# Altium footprint library Switch & Relays FAE.PcbLib: 34 footprints (part 2 of 3)
Each footprint in its own frame and in the unit in brackets; x right, y up, seen from the top. Pads: shape width x height; smd on the part's side, far side on the other; paste and mask are expansions set on the pad; w line width, h text height; cw(c..) or ccw(c..) is an arc to the next point about the centre after c.
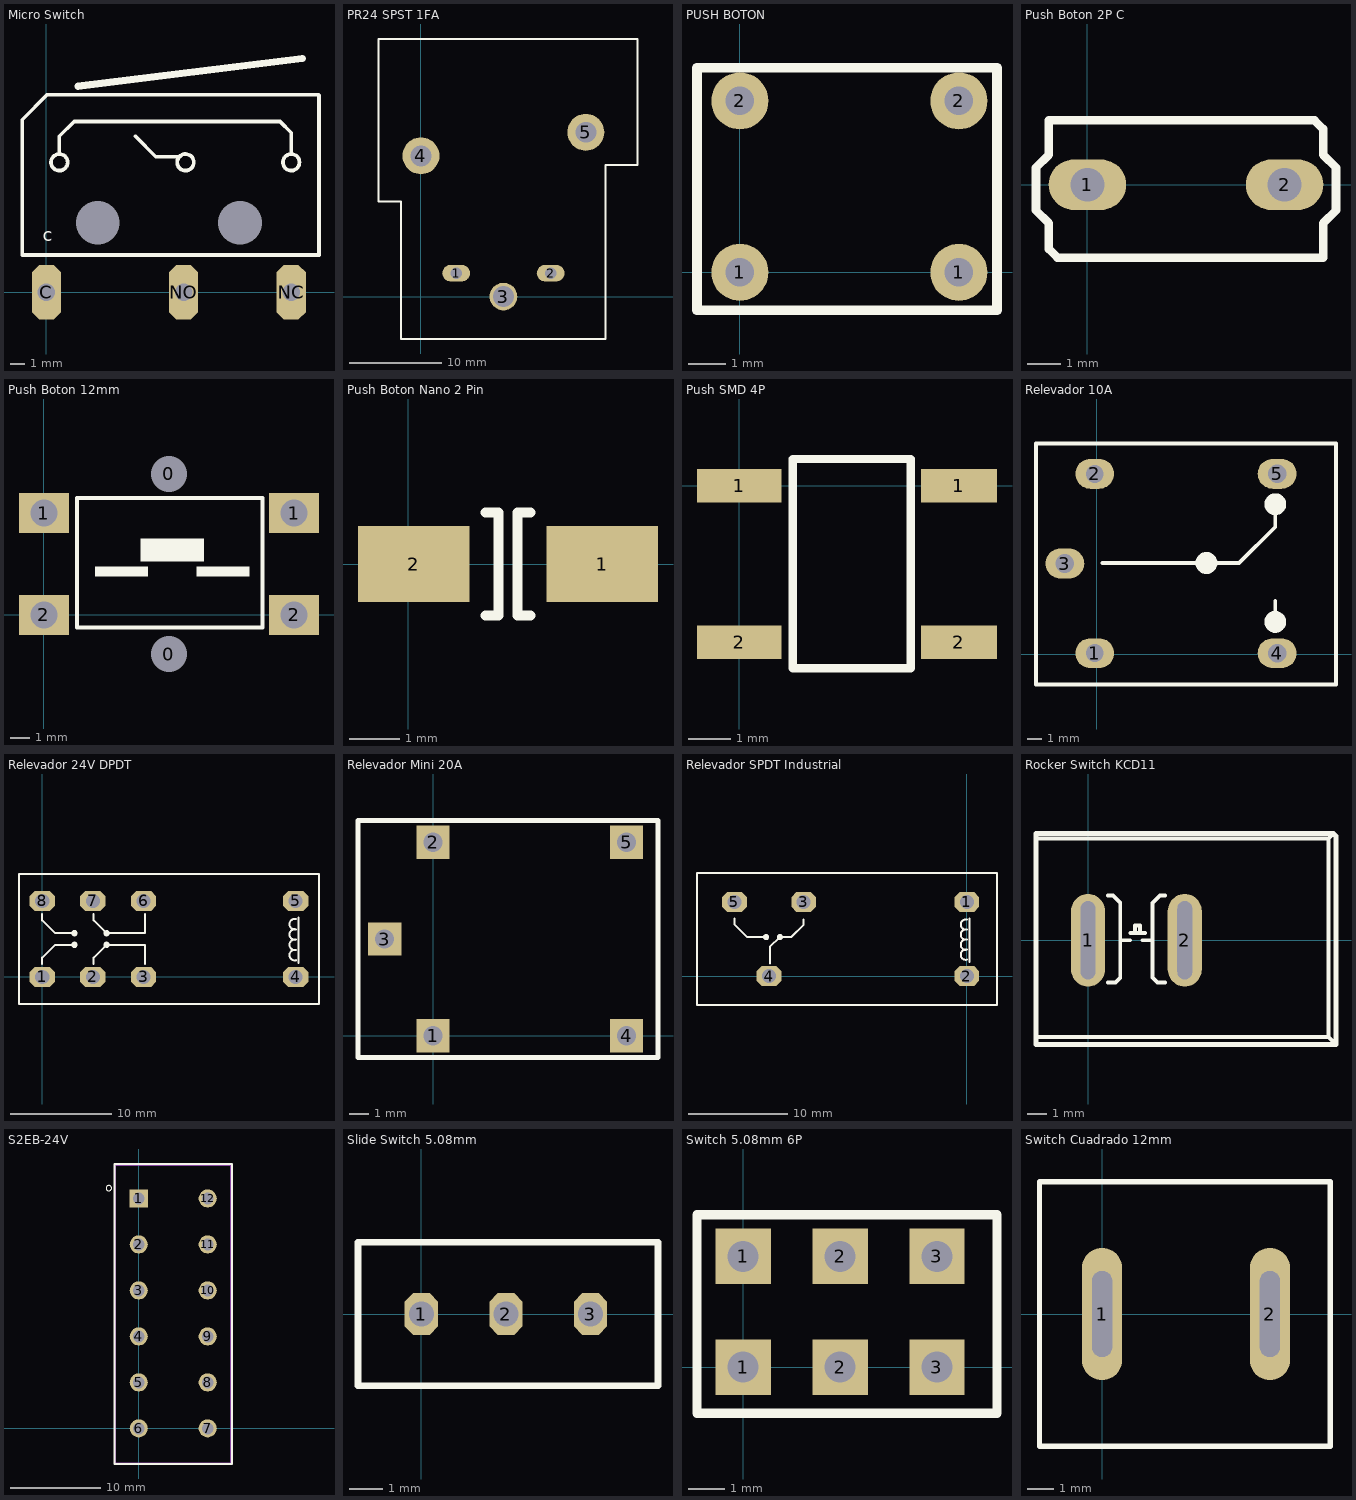
[diagram p1: the footprints below, top view; thin cyan lines are the x and y axes]

## Micro Switch [mm] "Limit Switch Micro AE"
pads (5):
  oct 2x3.75 hole 1.2: C(0,0) NC(16.763,0) NO(9.397,0)
  oct 2x2 hole 3: ""(3.512,4.746) ""(13.262,4.746)
Top Overlay:
  circle w0.254: c16.764,8.89 r0.568
  circle w0.254: c9.525,8.89 r0.568
  circle w0.254: c0.889,8.89 r0.568
  lines w0.254: 0.889,9.525 0.889,10.668 1.905,11.684 16.002,11.684 16.764,10.922 16.764,9.525 ; 6.096,10.668 7.493,9.271 9.144,9.271 ; -1.651,2.54 -1.651,11.811 0.064,13.525 18.605,13.525 18.669,13.462 18.669,2.54 -1.651,2.54
  lines w0.5: 2.159,14.097 17.526,16
  text "c" at -0.254,3.175 h1.52
3D body "kw11-3z.step": height 6.42, standoff -0.02, extent -1.491,-1.11 18.509,18.161

## PR24 SPST 1FA [mm] "Power Relay PR24 1 From A"
height 10
pads (5):
  oval 3x1.8 hole 1.25: 1(3.8,2.54) 2(14,2.54)
  round 3 hole 2.25: 3(8.9,0)
  round 4 hole 2.25: 4(0,15.2) 5(17.8,17.74)
Top Overlay:
  lines w0.2: -4.572,10.287 -4.572,27.813 23.368,27.813 23.368,14.224 19.939,14.224 19.939,-4.572 -2.161,-4.572 -2.156,10.287 -4.572,10.287
3D body: height 3, standoff -2, extent 3.304,2.041 4.3,3.039
3D body: height 3, standoff -2, extent 13.504,2.041 14.5,3.039
3D body: height 3, standoff -2, extent 7.908,-0.998 9.9,0.998
3D body: height 3, standoff -2, extent 16.808,16.742 18.8,18.738
3D body: height 3, standoff -2, extent -0.992,14.202 1,16.198
3D body: height 22, standoff 1.5, extent -4.318,-3.937 23.114,27.559

## PUSH BOTON [mil] "Push Boton TH 6x6mm"
pads (4):
  round 60 hole 30: 1(0,0) 1(230,0) 2(0,180) 2(230,180)
Top Overlay:
  lines w10: -45,-40 270,-40 270,215 -45,215 -45,-40
3D body "PUSH 4P TH.STEP": height 200.79, standoff -133.52, extent -41.86,-31.22 271.86,205

## Push Boton 2P C [mm] "Push Boton TH 6x4 2 pines cortos"
pads (2):
  oval 2.3x1.5 hole 1: 1(0,0) 2(5.842,0)
Top Overlay:
  lines w0.254: -1.524,-0.762 -1.524,0.508 -1.143,0.889 -1.143,1.905 6.731,1.905 6.985,1.651 6.985,0.889 7.366,0.508 7.366,-0.762 6.985,-1.143 6.985,-2.159 -0.889,-2.159 -1.143,-1.905 -1.143,-1.143 -1.524,-0.762
3D body "PB 2P TH Cortos-DTS-32.STEP": height 5.3, standoff -3.2, extent -0.957,-1.75 6.799,1.75

## Push Boton 12mm [mm] "Push Boton 12x12mm"
pads (6):
  round 1.524 hole 1.8: 0(6.25,-1.96) 0(6.25,7.04)
  rect 2.5x2 hole 1.35: 1(0,5.08) 1(12.5,5.08) 2(0,0) 2(12.5,0)
Top Overlay:
  rectangle: 4.826,2.667 8.001,3.81
  rectangle: 2.54,1.905 5.207,2.413
  rectangle: 7.62,1.905 10.287,2.413
  lines w0.2: 1.651,-0.635 10.922,-0.635 10.922,5.842 1.651,5.842 1.651,-0.635
3D body "PUSH12.stp": height 5.3, standoff -2.5, extent -0.762,-3.46 13.209,8.54

## Push Boton Nano 2 Pin [mm] "Push Boton SMD 2 pin"
pads (2):
  rect 2.2x1.5 smd: 1(3.83,0) 2(0.107,0)
Top Overlay:
  lines w0.2: 1.524,-1.016 1.778,-1.016 1.778,1.016 1.524,1.016 ; 2.413,-1.016 2.159,-1.016 2.159,1.016 2.413,1.016
3D body "Switch Tactile SMD.step": height 1.8, standoff 0, extent -0.295,-1.524 4.105,1.476

## Push SMD 4P [mm] "SMD 4P Push"
pads (4):
  rect 2x0.8 smd: 1(0,0) 2(0,-3.7)
  rect 1.8x0.8 smd: 1(5.2,0) 2(5.2,-3.7)
Top Overlay:
  lines w0.2: 1.27,-4.318 4.064,-4.318 4.064,0.635 2.921,0.635 1.27,0.635 1.27,-4.318
3D body "PUSH 4PSMD.STEP": height 1.5, standoff 0, extent -0.66,-4.505 5.74,0.695

## Relevador 10A [mm] "Relevador SPDT 10A Common"
height 10
pads (5):
  oval 2.6x2 hole 1.2: 1(-0.135,0.065) 2(-0.135,12.065)
  oval 2.6x2 hole 1.25: 3(-2.135,6.065) 4(12.065,0.065) 5(12.065,12.065)
Top Overlay:
  circle w0.7: c7.335,6.096 r0.382
  circle w0.7: c11.938,2.159 r0.382
  circle w0.7: c11.938,10.033 r0.382
  lines w0.254: 0.381,6.096 4.572,6.096 6.35,6.096 7.335,6.096 ; 7.717,6.096 9.525,6.096 11.938,8.509 11.938,10.414 ; 11.938,1.651 11.938,3.556 ; -4.064,-2.032 16.002,-2.032 16.002,14.097 -4.064,14.097 -4.064,-2.032
3D body "Relay RAS.step": height 16, standoff -2.2, extent -3.631,-1.651 15.569,13.749

## Relevador 24V DPDT [mm] "DPDT 25V Relevador FTR-F1CA024V"
pads (8):
  oct 2.5x2 hole 1.4: 1(0,0) 2(5,0) 3(10,0) 4(25,0) 5(25,7.5) 6(10,7.5) 7(5,7.5) 8(0,7.5)
Top Overlay:
  circle w0.254: c3.175,4.318 r0.18
  circle w0.254: c3.175,3.175 r0.18
  circle w0.254: c6.35,3.175 r0.18
  circle w0.254: c6.35,4.318 r0.18
  lines w0.2: 0,1.27 0,1.905 1.27,3.175 3.175,3.175 ; 0,6.223 0,5.588 1.27,4.318 3.175,4.318 ; 5.08,1.27 5.08,1.905 6.35,3.175 10.16,3.175 10.16,1.27 ; 5.08,6.223 5.08,5.588 6.35,4.318 10.16,4.318 10.16,6.223 ; 25.019,1.651 cw(c24.905,2.159) 25.019,2.667 cw(c24.905,3.175) 25.019,3.683 cw(c24.905,4.191) 25.019,4.699 cw(c24.905,5.207) 25.019,5.715 ; 25.273,1.397 25.273,5.842 ; -2.286,-2.667 27.305,-2.667 27.305,10.16 -2.286,10.16 -2.286,-2.667
3D body: height 4.5, standoff -1.5, extent 4.455,6.951 5.55,8.049
3D body: height 4.5, standoff -1.5, extent -0.545,-0.549 0.55,0.549
3D body: height 4.5, standoff -1.5, extent 24.455,6.951 25.55,8.049
3D body: height 4.5, standoff -1.5, extent 24.455,-0.549 25.55,0.549
3D body: height 4.5, standoff -1.5, extent 9.455,6.951 10.55,8.049
3D body: height 4.5, standoff -1.5, extent 9.455,-0.549 10.55,0.549
3D body: height 4.5, standoff -1.5, extent 4.455,-0.549 5.55,0.549
3D body: height 4.5, standoff -1.5, extent -0.545,6.951 0.55,8.049
3D body: height 16.5, standoff 0.2, extent -1.905,-2.413 27.051,9.779

## Relevador Mini 20A [mm] "Relevador Mini 20A"
pads (5):
  rect 1.75x1.75 hole 1: 1(0,0) 2(0,10.16) 3(-2.54,5.08) 4(10.16,0) 5(10.16,10.16)
Top Overlay:
  lines w0.254: -3.937,-1.143 -3.937,11.303 11.811,11.303 11.811,-1.143 -3.937,-1.143
3D body: height 3, standoff 0, extent 9.61,-0.549 10.706,0.549
3D body: height 2, standoff -1, extent -0.547,-0.485 0.548,0.612
3D body: height 2, standoff -1, extent -3.09,4.531 -1.994,5.629
3D body: height 2, standoff -1, extent -0.55,9.611 0.546,10.709
3D body: height 2, standoff -1, extent 9.61,9.611 10.706,10.709
3D body: height 15, standoff 0.5, extent -3.937,-1.27 11.684,11.43

## Relevador SPDT Industrial [mm] "Finder Series 40 y RM87N Compatible"
pads (5):
  oct 2.5x2 hole 1.4: 1(0,7.5) 2(0,0) 3(-16.5,7.5) 4(-20,0) 5(-23.5,7.5)
Top Overlay:
  circle w0.254: c-18.904,3.937 r0.18
  circle w0.254: c-20.301,3.937 r0.18
  lines w0.2: -23.476,5.842 -23.476,5.207 -22.206,3.937 -20.301,3.937 ; -19.92,1.27 -19.92,2.94 -18.923,3.937 -17.78,3.937 -16.51,5.207 -16.51,5.715 ; 0.019,1.651 cw(c-0.095,2.159) 0.019,2.667 cw(c-0.095,3.175) 0.019,3.683 cw(c-0.095,4.191) 0.019,4.699 cw(c-0.095,5.207) 0.019,5.715 ; 0.273,1.397 0.273,5.842 ; -27.286,-2.921 -27.286,10.414 3.048,10.414 3.048,-2.921 -27.286,-2.921
3D body "4031xxxx1020.stp": height 27.9, standoff -2.37, extent -26.567,-2.413 2.437,9.99

## Rocker Switch KCD11 [mm] "KCD11 Rocker Switch 15mm"
pads (2):
  oval 1.75x4.75 hole 0.75 slot 4 at 90 deg: 1(0,0) 2(4.953,0)
Top Overlay:
  lines w0.2: -2.667,-4.953 12.319,-4.953 ; -2.667,5.207 12.319,5.207 ; 1.016,-2.159 1.397,-2.159 1.651,-1.905 1.651,1.905 1.27,2.286 1.016,2.286 ; 1.651,0 2.159,0 ; 2.159,0.381 2.921,0.381 ; 2.413,0.381 2.413,0.762 2.667,0.762 2.667,0.508 ; 2.794,0 3.302,0 ; 3.937,-2.159 3.556,-2.159 3.302,-1.905 3.302,1.905 3.683,2.286 3.937,2.286 ; 12.573,5.461 12.319,5.207 ; 12.7,-5.334 12.319,-4.953 ; 12.319,-4.953 12.319,5.207
  lines w0.254: -2.667,-5.334 -2.667,5.461 12.573,5.461 12.7,5.334 12.7,-5.334 -2.667,-5.334
3D body "Rocker Switch KCD11.step": height 15.01, standoff -4, extent -2.532,-5.222 12.527,5.278

## S2EB-24V [mm] "S2EB-24V Relay Panasonic"
pads (12):
  rect 2x2 hole 1.3: 1(0,25.4)
  round 2 hole 1.3: 2(0,20.32) 3(0,15.24) 4(0,10.16) 5(0,5.08) 6(0,0) 7(7.62,0) 8(7.62,5.08) 9(7.62,10.16) 10(7.62,15.24) 11(7.62,20.32) 12(7.62,25.4)
Top Overlay:
  circle w0.1: c-3.302,26.543 r0.3
  lines w0.2: -2.667,-3.937 -2.667,29.21 10.287,29.21 10.287,-3.937 -2.667,-3.937
Mechanical 15:
  lines w0.05: -2.54,-3.81 -2.54,29.083 10.16,29.083 10.16,-3.81 -2.54,-3.81
3D body: height 18.3, standoff 1, extent 0,27.432 7.62,28.956
3D body: height 18.3, standoff 1, extent 0,-3.556 7.62,-2.032
3D body: height 4.85, standoff 0, extent -2.413,-3.556 10.033,28.956
3D body: height 15.05, standoff 4.85, extent -2.032,-1.143 9.652,26.543
3D body: height 2.5, standoff -1.5, extent 6.975,4.431 8.27,5.729
3D body: height 2.5, standoff -1.5, extent 6.975,14.591 8.27,15.889
3D body: height 2.5, standoff -1.5, extent 6.975,9.511 8.27,10.809
3D body: height 2.5, standoff -1.5, extent -0.645,9.511 0.65,10.809
3D body: height 2.5, standoff -1.5, extent -0.645,4.431 0.65,5.729
3D body: height 2.5, standoff -1.5, extent -0.645,14.591 0.65,15.889
3D body: height 2.5, standoff -1.5, extent 6.975,-0.649 8.27,0.649
3D body: height 2.5, standoff -1.5, extent -0.645,-0.649 0.65,0.649
3D body: height 2.5, standoff -1.5, extent 6.975,24.751 8.27,26.049
3D body: height 2.5, standoff -1.5, extent -0.645,24.751 0.65,26.049
3D body: height 2.5, standoff -1.5, extent -0.645,19.671 0.65,20.969
3D body: height 2.5, standoff -1.5, extent 6.975,19.671 8.27,20.969

## Slide Switch 5.08mm [mm] "Mini Slide Switch SPDT 3P"
pads (3):
  oct 1x1.25 hole 0.75: 1(0,0) 2(2.54,0) 3(5.08,0)
Top Overlay:
  lines w0.2: -1.905,-2.159 -1.905,2.159 7.112,2.159 7.112,-2.159 -1.905,-2.159
3D body "Mini Slide Switch-3Ppin-SPDT-0_3A.step": height 7.5, standoff -4, extent -1.651,-1.85 6.849,1.85

## Switch 5.08mm 6P [mil] "Slide Switch SPDT"
pads (6):
  rect 60x60 hole 33.46: 1(0,0) 1(0,120) 2(105,0) 2(105,120) 3(210,0) 3(210,120)
Top Overlay:
  lines w10: -50,-50 275,-50 275,165 -50,165 -50,-50
3D body "SWITCH.STEP": height 212.99, standoff -70.87, extent -51.42,-9.64 271.42,125

## Switch Cuadrado 12mm [mil] "Switch Momentaneo Montaje Panel"
pads (2):
  oval 60x196.85 hole 30 slot 127.95 at 90 deg: 1(0,0) 2(250,0)
Top Overlay:
  lines w7.87: -93.07,-196.85 -93.07,196.85 340,196.85 340,-196.85 -93.07,-196.85
3D body: height 590.55, standoff 551.18, extent -105,-205 350,205
3D body: height 649.61, standoff 551.18, extent -55,-160 305,170
3D body: height 590.55, standoff 19.68, extent -80,-185 325,185
3D body: height 78.74, standoff -59.06, extent 240,-57.5 260,57.5
3D body: height 78.74, standoff -59.06, extent -10,-57.5 10,57.5